# EAGLE library part DISP_LCD_ILI932X/HX8347_37PIN (library microbuilder)
37-pin 2.8" 240x320 Displays based on ILI9325/ILI9328/HX8347 Controllers Make sure to double-check the footprint against any LCD since there are dozens of varieties, but this footprint uses a relatively common 37-pin layout for ILI9325, ILI9328 or HX9347 240x320 LCD displays.
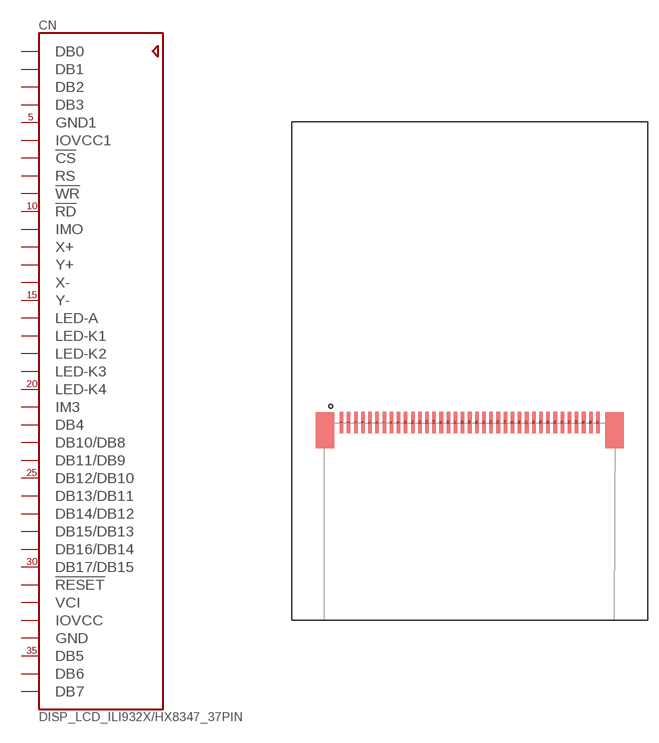
[diagram p65: symbol with the pads of ILI9325_28INCH_TS_OUTLINE; footprint ILI9325_28INCH_TS_OUTLINE]

Designator prefix CN

## DISP_LCD_ILI932X/HX8347_37PINOUTLINE  [ILI9325_28INCH_TS_OUTLINE]
1  DB0  pas
2  DB1  pas
3  DB2  pas
4  DB3  pas
5  GND1  pwr
6  IOVCC1  pwr
7  !CS  pas
8  RS  pas
9  !WR  pas
10  !RD  pas
11  IMO  pas
12  X+  pas
13  Y+  pas
14  X-  pas
15  Y-  pas
16  LED-A  pas
17  LED-K1  pas
18  LED-K2  pas
19  LED-K3  pas
20  LED-K4  pas
21  IM3  pas
22  DB4  pas
23  DB10/DB8  pas
24  DB11/DB9  pas
25  DB12/DB10  pas
26  DB13/DB11  pas
27  DB14/DB12  pas
28  DB15/DB13  pas
29  DB16/DB14  pas
30  DB17/DB15  pas
31  !RESET  pas
32  VCI  pwr
33  IOVCC  pwr
34  GND  pwr
35  DB5  pas
36  DB6  pas
37  DB7  pas

## Footprint ILI9325_28INCH_TS_OUTLINE (pad centres in mm)
smd 0.5 x 3: 1 -18,27.77; 2 -17,27.77; 3 -16,27.77; 4 -15,27.77; 5 -14,27.77; 6 -13,27.77; 7 -12,27.77; 8 -11,27.77; 9 -10,27.77; 10 -9,27.77; 11 -8,27.77; 12 -7,27.77; 13 -6,27.77; 14 -5,27.77; 15 -4,27.77; 16 -3,27.77; 17 -2,27.77; 18 -1,27.77; 19 0,27.77; 20 1,27.77; 21 2,27.77; 22 3,27.77; 23 4,27.77; 24 5,27.77; 25 6,27.77; 26 7,27.77; 27 8,27.77; 28 9,27.77; 29 10,27.77; 30 11,27.77; 31 12,27.77; 32 13,27.77; 33 14,27.77; 34 15,27.77; 35 16,27.77; 36 17,27.77; 37 18,27.77